# Altium footprint library SIP.PcbLib: 1 footprints
Each footprint in its own frame and in the unit in brackets; x right, y up, seen from the top. Pads: shape width x height; smd on the part's side, far side on the other; paste and mask are expansions set on the pad; w line width, h text height; cw(c..) or ccw(c..) is an arc to the next point about the centre after c.
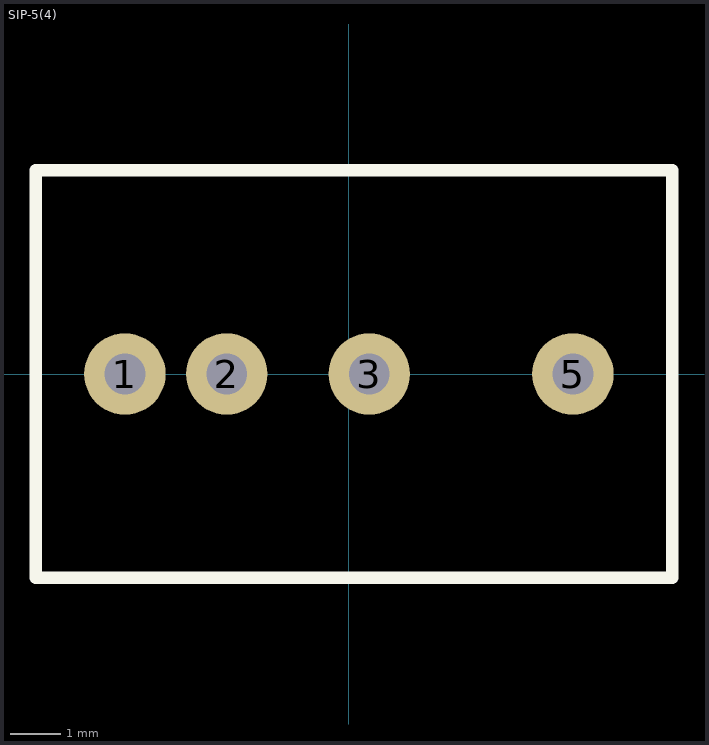
[diagram p0: the footprint, top view; thin cyan lines are the x and y axes]

## SIP-5(4) [mm]
height 10.2
pads (4):
  round 1.6 hole 0.8: 1(-4.4,0) 2(-2.4,0) 3(0.4,0) 5(4.4,0)
Top Overlay:
  lines w0.25: -6.15,-4 6.35,-4 6.35,4 -6.15,4 -6.15,-4
3D body "trn1-3_dual.STEP": height 11, standoff -4.1, extent -5.85,-3.85 6.05,3.85